# Altium footprint library Buzzer_Beeper.PcbLib: 35 footprints (part 1 of 3)
Each footprint in its own frame and in the unit in brackets; x right, y up, seen from the top. Pads: shape width x height; smd on the part's side, far side on the other; paste and mask are expansions set on the pad; w line width, h text height; cw(c..) or ccw(c..) is an arc to the next point about the centre after c.
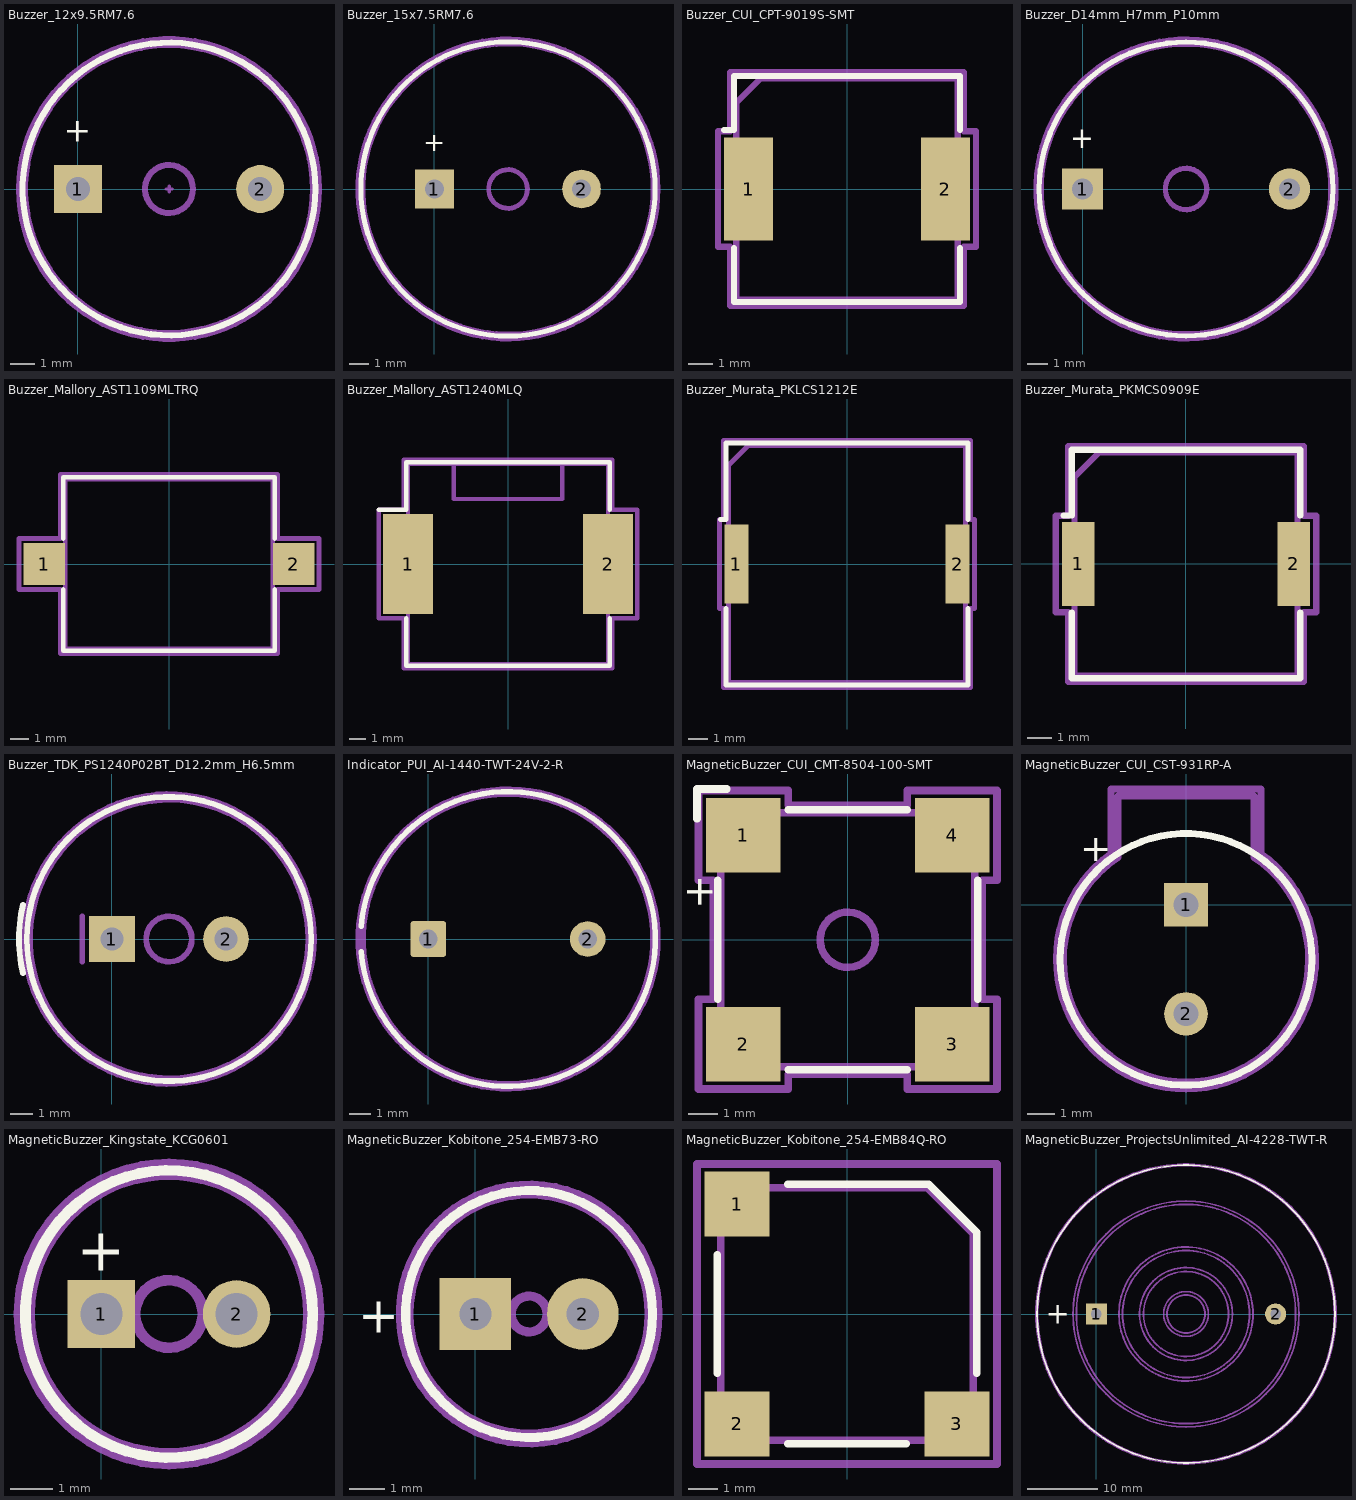
[diagram p0: the footprints below, top view; thin cyan lines are the x and y axes]

## Buzzer_12x9.5RM7.6 [mm]
pads (2):
  rect 2x2 hole 1: 1(0,0)
  round 2 hole 1: 2(7.6,0)
F.SilkS:
  circle w0.254: c3.8,0 r6.1
  text "+" at -0.588,1.962 h1
Top Component Center:
  lines w0.127: 3.683,0 3.937,0 ; 3.81,-0.127 3.81,0.127
Top Assembly:
  circle w0.254: c3.8,0 r6
  circle w0.254: c3.8,0 r1
  text "+" at -0.588,1.962 h1
  text "'.Designator'" at -0.247,3.16 h1
Top Courtyard:
  circle w0.254: c3.8,0 r6.25
Top Designator:
  text ".Designator" at -3.818,-0.508 h1.52
3D body "Buzzer_12x9.5RM7.6.step": height 9.53, standoff -3, extent -2.2,-6 9.8,6

## Buzzer_15x7.5RM7.6 [mm]
pads (2):
  rect 2x2 hole 1: 1(0,0)
  round 2 hole 1: 2(7.6,0)
F.SilkS:
  circle w0.254: c3.8,0 r7.6
  text "+" at -0.588,1.962 h1
Top Assembly:
  circle w0.254: c3.8,0 r7.5
  circle w0.254: c3.8,0 r1
  text "+" at -0.588,1.962 h1
  text "'.Designator'" at -0.247,3.16 h1
Top Courtyard:
  circle w0.254: c3.8,0 r7.75
Top Designator:
  text ".Designator" at -3.818,-0.508 h1.52
3D body "Buzzer_15x7.5RM7.6.step": height 7.53, standoff -3, extent -3.7,-7.5 11.3,7.5

## Buzzer_CUI_CPT-9019S-SMT [mm]
pads (2):
  rect 2x4.2 smd: 1(-4,0) 2(4,0)
F.SilkS:
  lines w0.254: -5,2.4 -4.6,2.4 -4.6,4.6 4.6,4.6 4.6,2.4 ; -4.6,-2.4 -4.6,-4.6 4.6,-4.6 4.6,-2.4
Top Assembly:
  lines w0.254: -4.5,-4.5 -4.5,3.5 -3.5,4.5 4.5,4.5 4.5,-4.5 -4.5,-4.5
  text "'.Designator'" at -4.047,-0.84 h1
Top Courtyard:
  lines w0.254: -5.25,-2.35 -5.25,2.35 -4.75,2.35 -4.75,4.75 4.75,4.75 4.75,2.35 5.25,2.35 5.25,-2.35 4.75,-2.35 4.75,-4.75 -4.75,-4.75 -4.75,-2.35 -5.25,-2.35
Top Designator:
  text ".Designator" at -7.618,-0.508 h1.52

## Buzzer_D14mm_H7mm_P10mm [mm]
pads (2):
  rect 2x2 hole 1: 1(0,0)
  round 2 hole 1: 2(10,0)
F.SilkS:
  circle w0.254: c5,0 r7.1
  text "+" at -0.588,1.962 h1
Top Assembly:
  circle w0.254: c5,0 r1
  circle w0.254: c5,0 r7
  text "'.Designator'" at 1.273,-3.11 h1
  text "+" at -0.588,1.962 h1
Top Courtyard:
  circle w0.254: c5,0 r7.25
Top Designator:
  text ".Designator" at -2.618,-0.508 h1.52

## Buzzer_Mallory_AST1109MLTRQ [mm]
pads (2):
  rect 2.2x2.2 smd: 1(-6.6,0) 2(6.6,0)
F.SilkS:
  lines w0.254: -5.6,-1.35 -5.6,-4.6 5.6,-4.6 5.6,-1.35 ; -5.6,1.35 -5.6,4.6 5.6,4.6 5.6,1.35
Top Assembly:
  lines w0.254: -5.5,-4.5 5.5,-4.5 5.5,4.5 -5.5,4.5 -5.5,-4.5
  text "'.Designator'" at -4.047,-0.84 h1
Top Courtyard:
  lines w0.254: -7.95,-1.35 -5.75,-1.35 -5.75,-4.75 5.75,-4.75 5.75,-1.35 7.95,-1.35 7.95,1.35 5.75,1.35 5.75,4.75 -5.75,4.75 -5.75,1.35 -7.95,1.35 -7.95,-1.35
Top Designator:
  text ".Designator" at -7.618,-0.508 h1.52
3D body "Buzzer_Mallory_AST1109MLTRQ.step": height 1.7, standoff 0, extent -7.5,-4.5 7.5,4.5

## Buzzer_Mallory_AST1240MLQ [mm]
pads (2):
  rect 3x6 smd: 1(-6,0) 2(6,0)
F.SilkS:
  lines w0.254: -7.75,3.25 -6.1,3.25 -6.1,6.1 6.1,6.1 6.1,3.25 ; -6.1,-3.25 -6.1,-6.1 6.1,-6.1 6.1,-3.25
Top Assembly:
  lines w0.254: -6,-0.85 -5.15,0 -6,0.85 ; -3.25,6 -3.25,3.9 3.25,3.9 3.25,6 ; -6,-6 -6,6 6,6 6,-6 -6,-6
  text "'.Designator'" at -4.047,-0.84 h1
Top Courtyard:
  lines w0.254: -7.75,-3.25 -7.75,3.25 -6.25,3.25 -6.25,6.25 6.25,6.25 6.25,3.25 7.75,3.25 7.75,-3.25 6.25,-3.25 6.25,-6.25 -6.25,-6.25 -6.25,-3.25 -7.75,-3.25
Top Designator:
  text ".Designator" at -7.618,-0.508 h1.52
Cmts.User:
  text "Sound Exit Hole" at -2.75,4.658 h0.5

## Buzzer_Murata_PKLCS1212E [mm]
pads (2):
  rect 1.2x4 smd: 1(-5.6,0) 2(5.6,0)
F.SilkS:
  lines w0.254: -6.42,2.26 -6.12,2.26 -6.12,6.12 6.12,6.12 6.12,2.26 ; -6.12,-2.26 -6.12,-6.12 6.12,-6.12 6.12,-2.26
Top Assembly:
  lines w0.254: -6,-6 6,-6 6,6 -5,6 -6,5 -6,-6
  text "'.Designator'" at -4.047,-0.84 h1
Top Courtyard:
  lines w0.254: -6.45,-2.25 -6.25,-2.25 -6.25,-6.25 6.25,-6.25 6.25,-2.25 6.45,-2.25 6.45,2.25 6.25,2.25 6.25,6.25 -6.25,6.25 -6.25,2.25 -6.45,2.25 -6.45,-2.25
Top Designator:
  text ".Designator" at -7.618,-0.508 h1.52

## Buzzer_Murata_PKMCS0909E [mm]
pads (2):
  rect 1.3x3.4 smd: 1(-4.35,0) 2(4.35,0)
F.SilkS:
  lines w0.254: -4.94,1.96 -4.61,1.96 -4.61,4.61 4.61,4.61 4.61,1.96 ; -4.61,-1.96 -4.61,-4.61 4.61,-4.61 4.61,-1.96
Top Assembly:
  lines w0.254: -4.5,-4.5 -4.5,3.5 -3.5,4.5 4.5,4.5 4.5,-4.5 -4.5,-4.5
  text "'.Designator'" at -4.047,-0.84 h1
Top Courtyard:
  lines w0.254: -5.25,-1.95 -5.25,1.95 -4.75,1.95 -4.75,4.75 4.75,4.75 4.75,1.95 5.25,1.95 5.25,-1.95 4.75,-1.95 4.75,-4.75 -4.75,-4.75 -4.75,-1.95 -5.25,-1.95
Top Designator:
  text ".Designator" at -7.618,-0.508 h1.52
3D body "Buzzer_Murata_PKMCS0909E.step": height 1.93, standoff 0.03, extent -4.5,-4.5 4.5,4.5

## Buzzer_TDK_PS1240P02BT_D12.2mm_H6.5mm [mm]
pads (2):
  rect 2x2 hole 1: 1(0,0)
  round 2 hole 1: 2(5,0)
F.SilkS:
  circle w0.254: c2.5,0 r6.23
  lines w0.254: -3.9,-1.5 cw(c2.5,0) -3.9,1.5
Top Assembly:
  circle w0.254: c2.5,0 r1
  circle w0.254: c2.5,0 r6.1
  lines w0.254: -1.3,-1 -1.3,1
  text "'.Designator'" at -1.547,1.59 h1
Top Courtyard:
  circle w0.254: c2.5,0 r6.35
Top Designator:
  text ".Designator" at -5.229,-0.508 h1.52
3D body "Buzzer_TDK_PS1240P02BT_D12.2mm_H6.5mm.step": height 6.53, standoff -15, extent -3.5,-6 8.5,6

## Indicator_PUI_AI-1440-TWT-24V-2-R [mm]
pads (2):
  rrect15% 1.7x1.7 hole 0.9: 1(0,0)
  round 1.7 hole 0.9: 2(7.6,0)
F.SilkS:
  lines w0.254: -3.2,-0.61 ccw(c3.8,0) -3.2,0.615
Top Assembly:
  circle w0.254: c3.8,0 r6.9
  text "'.Designator'" at -0.247,-0.84 h1
Top Courtyard:
  circle w0.254: c3.8,0 r7.15
Top Designator:
  text ".Designator" at -3.818,-0.508 h1.52
3D body "Indicator_PUI_AI-1440-TWT-24V-2-R.step": height 7.53, standoff -5.47, extent -3.1,-6.9 10.7,6.9

## MagneticBuzzer_CUI_CMT-8504-100-SMT [mm]
pads (4):
  rect 2.5x2.5 smd: 1(-3.5,3.5) 2(-3.5,-3.5) 3(3.5,-3.5) 4(3.5,3.5)
F.SilkS:
  lines w0.254: -5.05,4.05 -5.05,5.05 -4.05,5.05 ; -4.35,-2 -4.35,2 ; -2,-4.35 2,-4.35 ; -2,4.35 2,4.35 ; 4.35,-2 4.35,2
  text "+" at -4.522,1.022 h1
Top Assembly:
  circle w0.254: c0,0 r0.925
  lines w0.254: -4.25,-2.75 -2.75,-4.25 ; -4.25,2.75 -2.75,4.25 ; 2.75,-4.25 4.25,-2.75 ; 2.75,4.25 4.25,2.75 ; -4.25,-4.25 4.25,-4.25 4.25,4.25 -4.25,4.25 -4.25,-4.25
  text "'.Designator'" at -3.947,-2.54 h1
  text "+" at -2.172,2.172 h1
Top Courtyard:
  lines w0.254: -5,-5 -2,-5 -2,-4.5 2,-4.5 2,-5 5,-5 5,-2 4.5,-2 4.5,2 5,2 5,5 2,5 2,4.5 -2,4.5 -2,5 -5,5 -5,2 -4.5,2 -4.5,-2 -5,-2 -5,-5
Top Designator:
  text ".Designator" at -7.818,-0.483 h1.52

## MagneticBuzzer_CUI_CST-931RP-A [mm]
pads (2):
  rect 1.6x1.6 hole 0.9: 1(0,0)
  round 1.6 hole 0.9: 2(0,-4)
F.SilkS:
  circle w0.254: c0,-2 r4.62
  text "+" at -3.878,1.602 h1
Top Assembly:
  lines w0.254: -2.505,1.737 ccw(c0,-2) 2.5,1.74 2.5,4 -2.5,4 -2.5,1.74
  text "'.Designator'" at -4.047,-2.84 h1
  text "+" at -2.078,-0.478 h1
Top Courtyard:
  lines w0.254: -2.76,1.873 ccw(c0,-2) 2.75,1.88 2.75,4.25 -2.75,4.25 -2.75,1.88
Top Designator:
  text ".Designator" at -7.618,-1.761 h1.52
3D body "MagneticBuzzer_CUI_CST-931RP-A.step": height 4.53, standoff -4.5, extent -4.428,-6.518 4.572,4.232

## MagneticBuzzer_Kingstate_KCG0601 [mm]
pads (2):
  rect 1.6x1.6 hole 1: 1(0,0)
  round 1.6 hole 1: 2(3.2,0)
F.SilkS:
  circle w0.254: c1.6,0 r3.4
  text "+" at -0.578,1.022 h1
Top Assembly:
  circle w0.254: c1.6,0 r0.8
  circle w0.254: c1.6,0 r3.3
  text "'.Designator'" at -2.447,3.36 h1
  text "+" at -0.578,1.022 h1
Top Courtyard:
  circle w0.254: c1.6,0 r3.55
Top Designator:
  text ".Designator" at -6.168,-0.068 h1.52
3D body "MagneticBuzzer_Kingstate_KCG0601.step": height 3.53, standoff -3.3, extent -1.7,-3.3 4.9,3.3

## MagneticBuzzer_Kobitone_254-EMB73-RO [mm]
pads (2):
  rect 2x2 hole 0.9: 1(0,0)
  round 2 hole 0.9: 2(3,0)
F.SilkS:
  circle w0.254: c1.5,0 r3.45
  text "+" at -3.278,-0.528 h1
Top Assembly:
  circle w0.254: c1.5,0 r0.5
  circle w0.254: c1.5,0 r3.35
  text "+" at -3.278,-0.528 h1
  text "'.Designator'" at -2.247,1.01 h1
Top Courtyard:
  circle w0.254: c1.5,0 r3.6
Top Designator:
  text ".Designator" at -6.483,-0.508 h1.52

## MagneticBuzzer_Kobitone_254-EMB84Q-RO [mm]
pads (3):
  rect 2.195x2.195 smd: 1(-3.7,3.7) 2(-3.7,-3.7) 3(3.7,-3.7)
F.SilkS:
  lines w0.254: -4.37,-2 -4.37,2 ; -2,-4.37 2,-4.37 ; -2,4.37 2.75,4.37 4.37,2.75 4.37,-2
Top Assembly:
  lines w0.254: -4.25,-2.7 -2.7,-4.25 2.7,-4.25 4.25,-2.7 4.25,2.7 2.7,4.25 -2.7,4.25 -4.25,2.7 -4.25,-2.7
  text "'.Designator'" at -3.947,-0.94 h1
Top Courtyard:
  lines w0.254: -5.05,-5.05 5.05,-5.05 5.05,5.05 -5.05,5.05 -5.05,-5.05
Top Designator:
  text ".Designator" at -7.618,-0.508 h1.52
3D body "MagneticBuzzer_Kobitone_254-EMB84Q-RO.step": height 3.03, standoff -0.02, extent -4.269,-4.269 4.269,4.269

## MagneticBuzzer_ProjectsUnlimited_AI-4228-TWT-R [mm]
pads (2):
  rect 3x3 hole 1.5: 1(0,0)
  round 3 hole 1.5: 2(25.4,0)
F.SilkS:
  circle w0.254: c12.7,0 r21.1
  text "+" at -7.185,-1.385 h3
Top Assembly:
  circle w0.254: c12.7,0 r21
  circle w0.254: c12.7,0 r16
  circle w0.254: c12.7,0 r15.532
  circle w0.254: c12.7,0 r9.5
  circle w0.254: c12.7,0 r9
  circle w0.254: c12.7,0 r6.576
  circle w0.254: c12.7,0 r6.021
  circle w0.254: c12.7,0 r3.162
  circle w0.254: c12.7,0 r2.693
  text "+" at -7.185,-1.385 h3
  text "'.Designator'" at 8.153,21.66 h1
Top Courtyard:
  circle w0.254: c12.7,0 r21.25
Top Designator:
  text ".Designator" at 5.082,0.232 h1.52
3D body "MagneticBuzzer_ProjectsUnlimited_AI-4228-TWT-R.step": height 14.03, standoff -6.5, extent -8.3,-20.994 33.7,20.994